# Altium schematic symbol library RF Amp.SchLib: 11 symbols
Pins are listed as number, name and electrical type; pins without a type are passive.

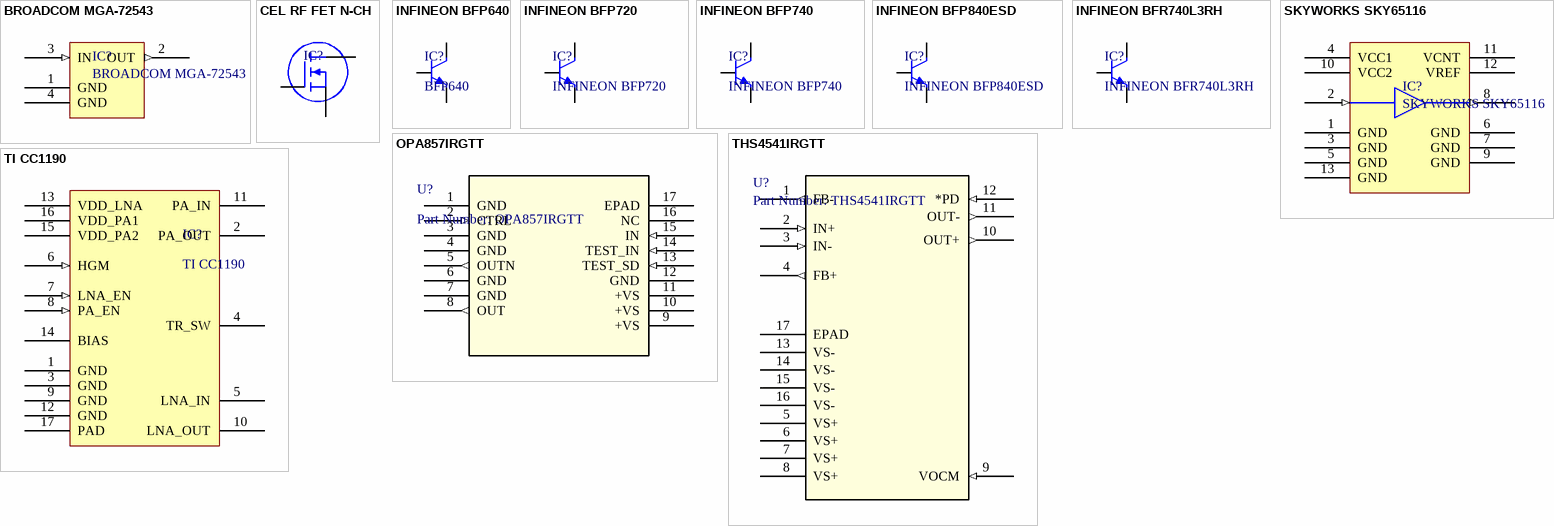
[diagram p0: symbols BROADCOM MGA-72543 to TI CC1190]

## BROADCOM MGA-72543
designator IC?
PHEMT* Low Noise Amplifi er with Bypass Switch
pins: 1 GND "Desc1", 2 OUT (out) "Desc1", 3 IN (in) "Desc1", 4 GND "Desc1"

## CEL RF FET N-CH
designator IC?
pins: 1 S, 2 D, 3 S, 4 G

## INFINEON BFP640
designator IC?, comment BFP640
NPN Silicon Germanium RF Transistor
pins: 1 B, 2 E, 3 C, 4 E

## INFINEON BFP720
designator IC?
NPN Silicon Germanium RF Transistor
pins: 1 B, 2 E, 3 C, 4 E

## INFINEON BFP740
designator IC?
NPN Silicon Germanium RF Transistor
pins: 1 B, 2 E, 3 C, 4 E

## INFINEON BFP840ESD
designator IC?
NPN Silicon Germanium RF Transistor
pins: 1 B, 2 E, 3 C, 4 E

## INFINEON BFR740L3RH
designator IC?
NPN Silicon Germanium RF Transistor
pins: 1 B, 2 C, 3 E

## OPA857IRGTT
designator U?, comment Part Number: OPA857IRGTT
Ultralow-Noise, Wideband, Pseudo-Differential Output Transimpedance Amplifier; Vendor: Texas Instruments; Built_By: EMA_UL_Team; Manufacturer_Part_Number: OPA857IRGTT; Copyright: Copyright (C) 2018 Accelerated Designs. All rights reserved; RefDes: RefDes; Type: DEV; Value: Value
footprint RGT16_1P45X1P45
pins: 1 GND (power), 2 CTRL (in), 3 GND (power), 4 GND (power), 5 OUTN (out), 6 GND (power), 7 GND (power), 8 OUT (out), 9 +VS (power), 10 +VS (power), 11 +VS (power), 12 GND (power), 13 TEST_SD (in), 14 TEST_IN (in), 15 IN (in), 16 NC, 17 EPAD

## SKYWORKS SKY65116
designator IC?
390-500 MHz Linear Power Amplifier
footprint SKY65116 (QFN, 12-Leads, Body 8.4x8.4mm (max), Pitch 1.91mm, IPC High Density)
pins: 1 GND "Desc1", 2 IN (in) "Desc1", 3 GND "Desc1", 4 VCC1 "Desc1", 5 GND "Desc1", 6 GND "Desc1", 7 GND "Desc1", 8 OUT (out) "Desc1", 9 GND "Desc1", 10 VCC2 "Desc1", 11 VCNT "Desc1", 12 VREF "Desc1", 13 GND "Desc1"

## THS4541IRGTT
designator U?, comment Part Number: THS4541IRGTT
IC OPAMP DIFF 1 CIRCUIT 16VQFN; Built_By: EMA_UL_Team; Vendor: Texas Instruments; Manufacturer_Part_Number: THS4541IRGTT; Copyright: Copyright (C) 2018 Accelerated Designs. All rights reserved; RefDes: RefDes; Type: DEV; Value: Value
footprint RGT16_1P45X1P45
pins: 1 FB- (out), 2 IN+ (in), 3 IN- (in), 4 FB+ (out), 5 VS+ (power), 6 VS+ (power), 7 VS+ (power), 8 VS+ (power), 9 VOCM (in), 10 OUT+ (out), 11 OUT- (out), 12 *PD (in), 13 VS- (power), 14 VS- (power), 15 VS- (power), 16 VS- (power), 17 EPAD

## TI CC1190
designator IC?
850-950MHz RF Front end
pins: 1 GND "Desc1", 2 PA_OUT "Desc1", 3 GND "Desc1", 4 TR_SW "Desc1", 5 LNA_IN "Desc1", 6 HGM (in) "Desc1", 7 LNA_EN (in) "Desc1", 8 PA_EN (in) "Desc1", 9 GND "Desc1", 10 LNA_OUT "Desc1", 11 PA_IN "Desc1", 12 GND "Desc1", 13 VDD_LNA "Desc1", 14 BIAS "Desc1", 15 VDD_PA2 "Desc1", 16 VDD_PA1 "Desc1", 17 PAD "Desc1"